# EAGLE library part AVR_10_PIN_JTAG (library custom_lib)
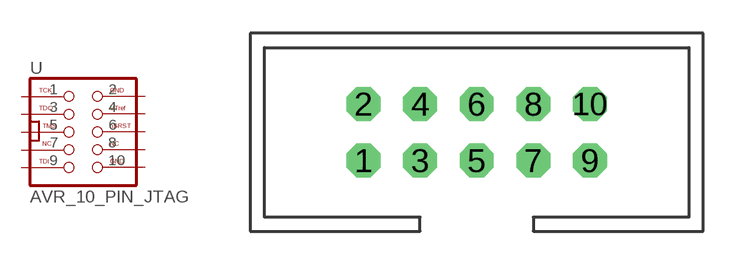
[diagram p3: symbol with the pads of 2X05; footprint 2X05]

Designator prefix -

## AVR_10_PIN_JTAG  [2X05]
1  TCK  pas
2  GND1  pas
3  TDO  pas
4  VTREF  pas
5  TMS  pas
6  NSRST  pas
7  NC1  pas
8  NC2  pas
9  TDI  pas
10  GND2  pas

## Footprint 2X05 (pad centres in mm)
PIN HEADER
drill 1.016 octagon: 1 -5.08,-1.27; 2 -5.08,1.27; 3 -2.54,-1.27; 4 -2.54,1.27; 5 0,-1.27; 6 0,1.27; 7 2.54,-1.27; 8 2.54,1.27; 9 5.08,-1.27; 10 5.08,1.27